# Altium schematic symbol library SnapEDAsch.SchLib: 1 symbol
Pins are listed as number, name and electrical type; pins without a type are passive.

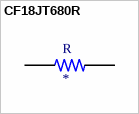
[diagram p0: symbol CF18JT680R]

## CF18JT680R
designator R
680 Ohms Â±5% 0.125W, 1/8W Through Hole Resistor Axial Flame Retardant Coating, Safety Carbon Film; MF: Stackpole Electronics; MP: CF18JT680R; Availability: Unavailable; Price: None; Package: Axial Stackpole Electronics; Value: *; SnapEDA_Link: https://www.snapeda.com/parts/CF18JT680R/Stackpole%20Electronics%20Inc/view-part/1197728/?ref=snap
footprint RESAD730W45L360D200
pins: 1, 2